# Altium integrated library Resistor - Current Sense.IntLib: 810 symbols (part 10 of 12)
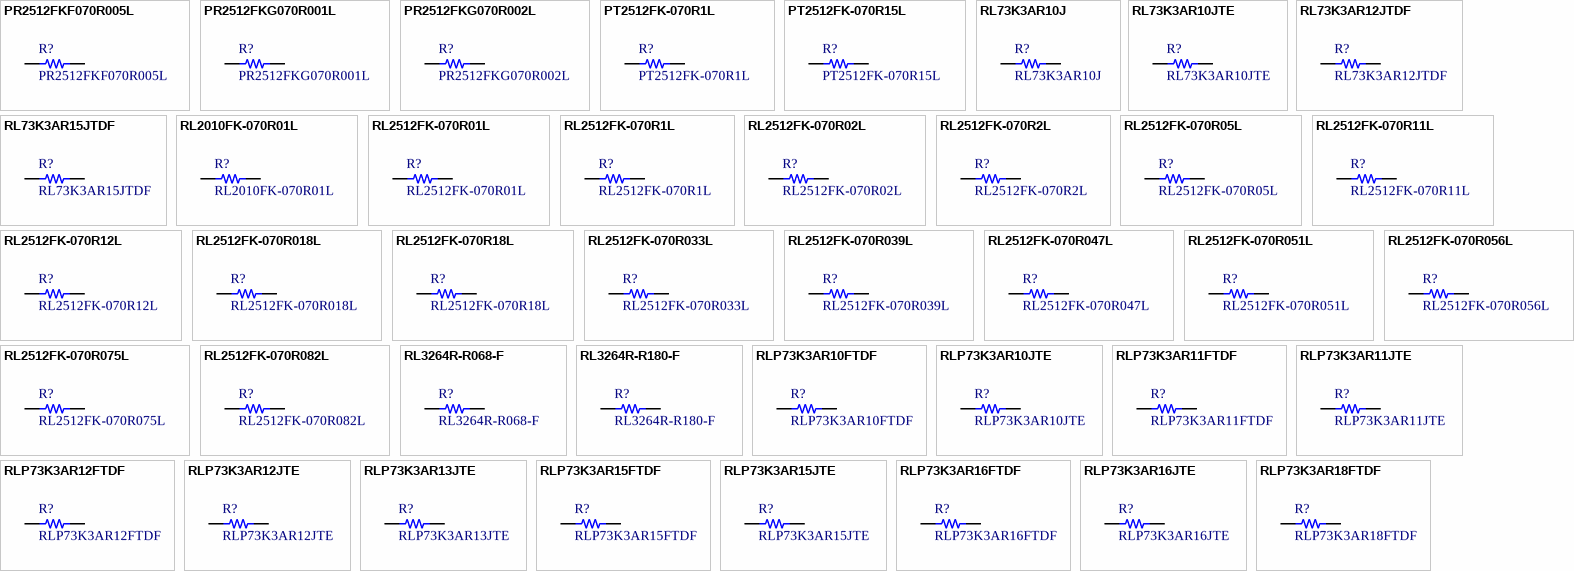
[diagram p29: symbols PR2512FKF070R005L to RLP73K3AR18FTDF]

## PR2512FKF070R005L
designator R?
RES SMD 0.005 OHM 1% 1W 2512; Manufacturer: Yageo; Value: 0.005; TemperatureRange: -55C ~ 170C; TemperatureCoefficient: 100ppm/C; Part Number: PR2512FKF070R005L; PartId: 21402; Supplier 1: Digi-Key; Supplier Part Number 1: 311-0.005AGTR-ND; ComponentLink1Description: Datasheet; ComponentLink1URL: http://www.yageo.com/NewPortal/yageodocoutput?fileName=/pdf/R-Chip/-PYu-PR_51_RoHS_Z_0.pdf; ComponentLink2Description: Digi-Key Listing; ComponentLink2URL: https://www.digikey.com/product-detail/en/yageo/PR2512FKF070R005L/311-0.005AGTR-ND/2178315; Tolerance: 1%; PowerRating: 1W; Price: 0.1882; Device Package: 2512 (6432 Metric)
footprint STACKPOLE CSR2512
pins: 1, 2

## PR2512FKG070R001L
designator R?
RES SMD 0.001 OHM 1% 1W 2512; Manufacturer: Yageo; Value: 0.001; TemperatureRange: -55C ~ 170C; TemperatureCoefficient: 200ppm/C; Part Number: PR2512FKG070R001L; PartId: 21438; Supplier 1: Digi-Key; Supplier Part Number 1: 311-0.001AGTR-ND; ComponentLink1Description: Datasheet; ComponentLink1URL: http://www.yageo.com/NewPortal/yageodocoutput?fileName=/pdf/R-Chip/-PYu-PR_51_RoHS_Z_0.pdf; ComponentLink2Description: Digi-Key Listing; ComponentLink2URL: https://www.digikey.com/product-detail/en/yageo/PR2512FKG070R001L/311-0.001AGTR-ND/2178319; Tolerance: 1%; PowerRating: 1W; Price: 0.272; Device Package: 2512 (6432 Metric)
footprint STACKPOLE CSR2512
pins: 1, 2

## PR2512FKG070R002L
designator R?
RES SMD 0.002 OHM 1% 1W 2512; Manufacturer: Yageo; Value: 0.002; TemperatureRange: -55C ~ 170C; TemperatureCoefficient: 200ppm/C; Part Number: PR2512FKG070R002L; PartId: 21439; Supplier 1: Digi-Key; Supplier Part Number 1: 311-0.002AGTR-ND; ComponentLink1Description: Datasheet; ComponentLink1URL: http://www.yageo.com/NewPortal/yageodocoutput?fileName=/pdf/R-Chip/-PYu-PR_51_RoHS_Z_0.pdf; ComponentLink2Description: Digi-Key Listing; ComponentLink2URL: https://www.digikey.com/product-detail/en/yageo/PR2512FKG070R002L/311-0.002AGTR-ND/2178318; Tolerance: 1%; PowerRating: 1W; Price: 0.272; Device Package: 2512 (6432 Metric)
footprint STACKPOLE CSR2512
pins: 1, 2

## PT2512FK-070R1L
designator R?
RES SMD 0.1 OHM 1% 1W 2512; Manufacturer: Yageo; Value: 0.1; TemperatureRange: -55C ~ 155C; TemperatureCoefficient: 100ppm/C; Part Number: PT2512FK-070R1L; PartId: 21227; Supplier 1: Digi-Key; Supplier Part Number 1: 311-0.1ARTR-ND; ComponentLink1Description: Datasheet; ComponentLink1URL: http://www.yageo.com/documents/recent/PYu-PT-Group_521_RoHS_L-1.pdf; ComponentLink2Description: Digi-Key Listing; ComponentLink2URL: https://www.digikey.com/product-detail/en/yageo/PT2512FK-070R1L/311-0.1ARTR-ND/2178346; Tolerance: 1%; PowerRating: 1W; Price: 0.1004; Device Package: 2512 (6432 Metric)
footprint STACKPOLE CSR2512
pins: 1, 2

## PT2512FK-070R15L
designator R?
RES SMD 0.15 OHM 1% 1W 2512; Manufacturer: Yageo; Value: 0.15; TemperatureRange: -55C ~ 155C; TemperatureCoefficient: 75ppm/C; Part Number: PT2512FK-070R15L; PartId: 21217; Supplier 1: Digi-Key; Supplier Part Number 1: 311-0.15ARTR-ND; ComponentLink1Description: Datasheet; ComponentLink1URL: http://www.yageo.com/documents/recent/PYu-PT-Group_521_RoHS_L-1.pdf; ComponentLink2Description: Digi-Key Listing; ComponentLink2URL: https://www.digikey.com/product-detail/en/yageo/PT2512FK-070R15L/311-0.15ARTR-ND/2178347; Tolerance: 1%; PowerRating: 1W; Price: 0.096; Device Package: 2512 (6432 Metric)
footprint STACKPOLE CSR2512
pins: 1, 2

## RL73K3AR10J
designator R?
RES SMD 0.1 OHM 5% 1W 2512; Value: 0.1; TemperatureRange: -55C ~ 155C; TemperatureCoefficient: 200ppm/C; Part Number: RL73K3AR10J; PartId: 21212; Supplier 1: Digi-Key; Supplier Part Number 1: A103652TR-ND; ComponentLink1Description: Datasheet; ComponentLink1URL: http://www.te.com/commerce/DocumentDelivery/DDEController?Action=srchrtrv&DocNm=1773269&DocType=DS&DocLang=English; ComponentLink2Description: Digi-Key Listing; ComponentLink2URL: https://www.digikey.com/product-detail/en/te-connectivity-passive-product/RL73K3AR10J/A103652TR-ND/2055681; Tolerance: 5%; PowerRating: 1W; Price: 0.0813; Device Package: 2512 (6432 Metric)
footprint STACKPOLE CSR2512
pins: 1, 2

## RL73K3AR10JTE
designator R?
RES SMD 0.1 OHM 5% 1W 2512; Value: 0.1; TemperatureRange: -55C ~ 155C; TemperatureCoefficient: 200ppm/C; Part Number: RL73K3AR10JTE; PartId: 21211; Supplier 1: Digi-Key; Supplier Part Number 1: A103653TR-ND; ComponentLink1Description: Datasheet; ComponentLink1URL: http://www.te.com/commerce/DocumentDelivery/DDEController?Action=srchrtrv&DocNm=1773269&DocType=DS&DocLang=English; ComponentLink2Description: Digi-Key Listing; ComponentLink2URL: https://www.digikey.com/product-detail/en/te-connectivity-passive-product/RL73K3AR10JTE/A103653TR-ND/2055682; Tolerance: 5%; PowerRating: 1W; Price: 0.0813; Device Package: 2512 (6432 Metric)
footprint STACKPOLE CSR2512
pins: 1, 2

## RL73K3AR12JTDF
designator R?
RES SMD 0.12 OHM 5% 1W 2512; Value: 0.12; TemperatureRange: -55C ~ 155C; TemperatureCoefficient: 200ppm/C; Part Number: RL73K3AR12JTDF; PartId: 21241; Supplier 1: Digi-Key; Supplier Part Number 1: A106123TR-ND; ComponentLink1Description: Datasheet; ComponentLink1URL: http://www.te.com/commerce/DocumentDelivery/DDEController?Action=srchrtrv&DocNm=1773269&DocType=DS&DocLang=English; ComponentLink2Description: Digi-Key Listing; ComponentLink2URL: https://www.digikey.com/product-detail/en/te-connectivity-passive-product/RL73K3AR12JTDF/A106123TR-ND/2364959; Tolerance: 5%; PowerRating: 1W; Price: 0.1111; Device Package: 2512 (6432 Metric)
footprint STACKPOLE CSR2512
pins: 1, 2

## RL73K3AR15JTDF
designator R?
RES SMD 0.15 OHM 5% 1W 2512; Value: 0.15; TemperatureRange: -55C ~ 155C; TemperatureCoefficient: 200ppm/C; Part Number: RL73K3AR15JTDF; PartId: 21240; Supplier 1: Digi-Key; Supplier Part Number 1: A106124TR-ND; ComponentLink1Description: Datasheet; ComponentLink1URL: http://www.te.com/commerce/DocumentDelivery/DDEController?Action=srchrtrv&DocNm=1773269&DocType=DS&DocLang=English; ComponentLink2Description: Digi-Key Listing; ComponentLink2URL: https://www.digikey.com/product-detail/en/te-connectivity-passive-product/RL73K3AR15JTDF/A106124TR-ND/2364960; Tolerance: 5%; PowerRating: 1W; Price: 0.1111; Device Package: 2512 (6432 Metric)
footprint STACKPOLE CSR2512
pins: 1, 2

## RL2010FK-070R01L
designator R?
RES SMD 0.01 OHM 1% 3/4W 2010; Manufacturer: Yageo; Value: 0.01; TemperatureRange: -55C ~ 155C; TemperatureCoefficient: 1500ppm/C; PowerRating: 0.75W, 3/4W; Part Number: RL2010FK-070R01L; PartId: 21532; Supplier 1: Digi-Key; Supplier Part Number 1: 311-0.01PKTR-ND; ComponentLink1Description: Datasheet; ComponentLink1URL: http://www.yageo.com/documents/recent/PYu-RL_Group_521_RoHS_L%201.pdf; ComponentLink2Description: Digi-Key Listing; ComponentLink2URL: https://www.digikey.com/product-detail/en/yageo/RL2010FK-070R01L/311-0.01PKTR-ND/3885965; Tolerance: 1%; Price: 0.1229; Device Package: 2010 (5125 Metric)
footprint STACKPOLE CSR2010
pins: 1, 2

## RL2512FK-070R01L
designator R?
RES SMD 0.01 OHM 1% 1W 2512; Manufacturer: Yageo; Value: 0.01; TemperatureRange: -55C ~ 155C; TemperatureCoefficient: 1500ppm/C; Part Number: RL2512FK-070R01L; PartId: 21263; Supplier 1: Digi-Key; Supplier Part Number 1: 311-.010TTR-ND; ComponentLink1Description: Datasheet; ComponentLink1URL: http://www.yageo.com/documents/recent/PYu-RL_Group_521_RoHS_L%201.pdf; ComponentLink2Description: Digi-Key Listing; ComponentLink2URL: https://www.digikey.com/product-detail/en/yageo/RL2512FK-070R01L/311-.010TTR-ND/1037140; Tolerance: 1%; PowerRating: 1W; Price: 0.1309; Device Package: 2512 (6432 Metric)
footprint STACKPOLE CSR2512
pins: 1, 2

## RL2512FK-070R1L
designator R?
RES SMD 0.1 OHM 1% 1W 2512; Manufacturer: Yageo; Value: 0.1; TemperatureRange: -55C ~ 155C; TemperatureCoefficient: 600ppm/C; Part Number: RL2512FK-070R1L; PartId: 21218; Supplier 1: Digi-Key; Supplier Part Number 1: 311-0.1TTR-ND; ComponentLink1Description: Datasheet; ComponentLink1URL: http://www.yageo.com/documents/recent/PYu-RL_Group_521_RoHS_L%201.pdf; ComponentLink2Description: Digi-Key Listing; ComponentLink2URL: https://www.digikey.com/product-detail/en/yageo/RL2512FK-070R1L/311-0.1TTR-ND/2827664; Tolerance: 1%; PowerRating: 1W; Price: 0.097; Device Package: 2512 (6432 Metric)
footprint STACKPOLE CSR2512
pins: 1, 2

## RL2512FK-070R02L
designator R?
RES SMD 0.02 OHM 1% 1W 2512; Manufacturer: Yageo; Value: 0.02; TemperatureRange: -55C ~ 155C; TemperatureCoefficient: 1200ppm/C; Part Number: RL2512FK-070R02L; PartId: 21267; Supplier 1: Digi-Key; Supplier Part Number 1: 311-0.02TTR-ND; ComponentLink1Description: Datasheet; ComponentLink1URL: http://www.yageo.com/documents/recent/PYu-RL_Group_521_RoHS_L%201.pdf; ComponentLink2Description: Digi-Key Listing; ComponentLink2URL: https://www.digikey.com/product-detail/en/yageo/RL2512FK-070R02L/311-0.02TTR-ND/2827671; Tolerance: 1%; PowerRating: 1W; Price: 0.1309; Device Package: 2512 (6432 Metric)
footprint STACKPOLE CSR2512
pins: 1, 2

## RL2512FK-070R2L
designator R?
RES SMD 0.2 OHM 1% 1W 2512; Manufacturer: Yageo; Value: 0.2; TemperatureRange: -55C ~ 155C; TemperatureCoefficient: 600ppm/C; Part Number: RL2512FK-070R2L; PartId: 21219; Supplier 1: Digi-Key; Supplier Part Number 1: 311-0.2TTR-ND; ComponentLink1Description: Datasheet; ComponentLink1URL: http://www.yageo.com/documents/recent/PYu-RL_Group_521_RoHS_L%201.pdf; ComponentLink2Description: Digi-Key Listing; ComponentLink2URL: https://www.digikey.com/product-detail/en/yageo/RL2512FK-070R2L/311-0.2TTR-ND/3885935; Tolerance: 1%; PowerRating: 1W; Price: 0.097; Device Package: 2512 (6432 Metric)
footprint STACKPOLE CSR2512
pins: 1, 2

## RL2512FK-070R05L
designator R?
RES SMD 0.05 OHM 1% 1W 2512; Manufacturer: Yageo; Value: 0.05; TemperatureRange: -55C ~ 155C; TemperatureCoefficient: 800ppm/C; Part Number: RL2512FK-070R05L; PartId: 21268; Supplier 1: Digi-Key; Supplier Part Number 1: 311-0.05TTR-ND; ComponentLink1Description: Datasheet; ComponentLink1URL: http://www.yageo.com/documents/recent/PYu-RL_Group_521_RoHS_L%201.pdf; ComponentLink2Description: Digi-Key Listing; ComponentLink2URL: https://www.digikey.com/product-detail/en/yageo/RL2512FK-070R05L/311-0.05TTR-ND/3885862; Tolerance: 1%; PowerRating: 1W; Price: 0.1309; Device Package: 2512 (6432 Metric)
footprint STACKPOLE CSR2512
pins: 1, 2

## RL2512FK-070R11L
designator R?
RES SMD 0.11 OHM 1% 1W 2512; Manufacturer: Yageo; Value: 0.11; TemperatureRange: -55C ~ 155C; TemperatureCoefficient: 600ppm/C; Part Number: RL2512FK-070R11L; PartId: 21220; Supplier 1: Digi-Key; Supplier Part Number 1: 311-0.11TTR-ND; ComponentLink1Description: Datasheet; ComponentLink1URL: http://www.yageo.com/documents/recent/PYu-RL_Group_521_RoHS_L%201.pdf; ComponentLink2Description: Digi-Key Listing; ComponentLink2URL: https://www.digikey.com/product-detail/en/yageo/RL2512FK-070R11L/311-0.11TTR-ND/3885863; Tolerance: 1%; PowerRating: 1W; Price: 0.097; Device Package: 2512 (6432 Metric)
footprint STACKPOLE CSR2512
pins: 1, 2

## RL2512FK-070R12L
designator R?
RES SMD 0.12 OHM 1% 1W 2512; Manufacturer: Yageo; Value: 0.12; TemperatureRange: -55C ~ 155C; TemperatureCoefficient: 600ppm/C; Part Number: RL2512FK-070R12L; PartId: 21221; Supplier 1: Digi-Key; Supplier Part Number 1: 311-0.12TTR-ND; ComponentLink1Description: Datasheet; ComponentLink1URL: http://www.yageo.com/documents/recent/PYu-RL_Group_521_RoHS_L%201.pdf; ComponentLink2Description: Digi-Key Listing; ComponentLink2URL: https://www.digikey.com/product-detail/en/yageo/RL2512FK-070R12L/311-0.12TTR-ND/3885855; Tolerance: 1%; PowerRating: 1W; Price: 0.097; Device Package: 2512 (6432 Metric)
footprint STACKPOLE CSR2512
pins: 1, 2

## RL2512FK-070R018L
designator R?
RES SMD 0.018 OHM 1% 1W 2512; Manufacturer: Yageo; Value: 0.018; TemperatureRange: -55C ~ 155C; TemperatureCoefficient: 1500ppm/C; Part Number: RL2512FK-070R018L; PartId: 21266; Supplier 1: Digi-Key; Supplier Part Number 1: 311-.018TTR-ND; ComponentLink1Description: Datasheet; ComponentLink1URL: http://www.yageo.com/documents/recent/PYu-RL_Group_521_RoHS_L%201.pdf; ComponentLink2Description: Digi-Key Listing; ComponentLink2URL: https://www.digikey.com/product-detail/en/yageo/RL2512FK-070R018L/311-.018TTR-ND/1037139; Tolerance: 1%; PowerRating: 1W; Price: 0.1309; Device Package: 2512 (6432 Metric)
footprint STACKPOLE CSR2512
pins: 1, 2

## RL2512FK-070R18L
designator R?
RES SMD 0.18 OHM 1% 1W 2512; Manufacturer: Yageo; Value: 0.18; TemperatureRange: -55C ~ 155C; TemperatureCoefficient: 600ppm/C; Part Number: RL2512FK-070R18L; PartId: 21222; Supplier 1: Digi-Key; Supplier Part Number 1: 311-0.18TTR-ND; ComponentLink1Description: Datasheet; ComponentLink1URL: http://www.yageo.com/documents/recent/PYu-RL_Group_521_RoHS_L%201.pdf; ComponentLink2Description: Digi-Key Listing; ComponentLink2URL: https://www.digikey.com/product-detail/en/yageo/RL2512FK-070R18L/311-0.18TTR-ND/3885859; Tolerance: 1%; PowerRating: 1W; Price: 0.097; Device Package: 2512 (6432 Metric)
footprint STACKPOLE CSR2512
pins: 1, 2

## RL2512FK-070R033L
designator R?
RES SMD 0.033 OHM 1% 1W 2512; Manufacturer: Yageo; Value: 0.033; TemperatureRange: -55C ~ 155C; TemperatureCoefficient: 1200ppm/C; Part Number: RL2512FK-070R033L; PartId: 21265; Supplier 1: Digi-Key; Supplier Part Number 1: 311-.033TTR-ND; ComponentLink1Description: Datasheet; ComponentLink1URL: http://www.yageo.com/documents/recent/PYu-RL_Group_521_RoHS_L%201.pdf; ComponentLink2Description: Digi-Key Listing; ComponentLink2URL: https://www.digikey.com/product-detail/en/yageo/RL2512FK-070R033L/311-.033TTR-ND/1037143; Tolerance: 1%; PowerRating: 1W; Price: 0.1309; Device Package: 2512 (6432 Metric)
footprint STACKPOLE CSR2512
pins: 1, 2

## RL2512FK-070R039L
designator R?
RES SMD 0.039 OHM 1% 1W 2512; Manufacturer: Yageo; Value: 0.039; TemperatureRange: -55C ~ 155C; TemperatureCoefficient: 1200ppm/C; Part Number: RL2512FK-070R039L; PartId: 21264; Supplier 1: Digi-Key; Supplier Part Number 1: 311-.039TTR-ND; ComponentLink1Description: Datasheet; ComponentLink1URL: http://www.yageo.com/documents/recent/PYu-RL_Group_521_RoHS_L%201.pdf; ComponentLink2Description: Digi-Key Listing; ComponentLink2URL: https://www.digikey.com/product-detail/en/yageo/RL2512FK-070R039L/311-.039TTR-ND/1037144; Tolerance: 1%; PowerRating: 1W; Price: 0.1309; Device Package: 2512 (6432 Metric)
footprint STACKPOLE CSR2512
pins: 1, 2

## RL2512FK-070R047L
designator R?
RES SMD 0.047 OHM 1% 1W 2512; Manufacturer: Yageo; Value: 0.047; TemperatureRange: -55C ~ 155C; TemperatureCoefficient: 1200ppm/C; Part Number: RL2512FK-070R047L; PartId: 21262; Supplier 1: Digi-Key; Supplier Part Number 1: 311-.047TTR-ND; ComponentLink1Description: Datasheet; ComponentLink1URL: http://www.yageo.com/documents/recent/PYu-RL_Group_521_RoHS_L%201.pdf; ComponentLink2Description: Digi-Key Listing; ComponentLink2URL: https://www.digikey.com/product-detail/en/yageo/RL2512FK-070R047L/311-.047TTR-ND/1037145; Tolerance: 1%; PowerRating: 1W; Price: 0.1309; Device Package: 2512 (6432 Metric)
footprint STACKPOLE CSR2512
pins: 1, 2

## RL2512FK-070R051L
designator R?
RES SMD 0.051 OHM 1% 1W 2512; Manufacturer: Yageo; Value: 0.051; TemperatureRange: -55C ~ 155C; TemperatureCoefficient: 800ppm/C; Part Number: RL2512FK-070R051L; PartId: 21225; Supplier 1: Digi-Key; Supplier Part Number 1: 311-0.051TTR-ND; ComponentLink1Description: Datasheet; ComponentLink1URL: http://www.yageo.com/documents/recent/PYu-RL_Group_521_RoHS_L%201.pdf; ComponentLink2Description: Digi-Key Listing; ComponentLink2URL: https://www.digikey.com/product-detail/en/yageo/RL2512FK-070R051L/311-0.051TTR-ND/3885848; Tolerance: 1%; PowerRating: 1W; Price: 0.097; Device Package: 2512 (6432 Metric)
footprint STACKPOLE CSR2512
pins: 1, 2

## RL2512FK-070R056L
designator R?
RES SMD 0.056 OHM 1% 1W 2512; Manufacturer: Yageo; Value: 0.056; TemperatureRange: -55C ~ 155C; TemperatureCoefficient: 800ppm/C; Part Number: RL2512FK-070R056L; PartId: 21226; Supplier 1: Digi-Key; Supplier Part Number 1: 311-0.056TTR-ND; ComponentLink1Description: Datasheet; ComponentLink1URL: http://www.yageo.com/documents/recent/PYu-RL_Group_521_RoHS_L%201.pdf; ComponentLink2Description: Digi-Key Listing; ComponentLink2URL: https://www.digikey.com/product-detail/en/yageo/RL2512FK-070R056L/311-0.056TTR-ND/3885851; Tolerance: 1%; PowerRating: 1W; Price: 0.097; Device Package: 2512 (6432 Metric)
footprint STACKPOLE CSR2512
pins: 1, 2

## RL2512FK-070R075L
designator R?
RES SMD 0.075 OHM 1% 1W 2512; Manufacturer: Yageo; Value: 0.075; TemperatureRange: -55C ~ 155C; TemperatureCoefficient: 800ppm/C; Part Number: RL2512FK-070R075L; PartId: 21223; Supplier 1: Digi-Key; Supplier Part Number 1: 311-0.075TTR-ND; ComponentLink1Description: Datasheet; ComponentLink1URL: http://www.yageo.com/documents/recent/PYu-RL_Group_521_RoHS_L%201.pdf; ComponentLink2Description: Digi-Key Listing; ComponentLink2URL: https://www.digikey.com/product-detail/en/yageo/RL2512FK-070R075L/311-0.075TTR-ND/3885860; Tolerance: 1%; PowerRating: 1W; Price: 0.097; Device Package: 2512 (6432 Metric)
footprint STACKPOLE CSR2512
pins: 1, 2

## RL2512FK-070R082L
designator R?
RES SMD 0.082 OHM 1% 1W 2512; Manufacturer: Yageo; Value: 0.082; TemperatureRange: -55C ~ 155C; TemperatureCoefficient: 800ppm/C; Part Number: RL2512FK-070R082L; PartId: 21224; Supplier 1: Digi-Key; Supplier Part Number 1: 311-0.082TTR-ND; ComponentLink1Description: Datasheet; ComponentLink1URL: http://www.yageo.com/documents/recent/PYu-RL_Group_521_RoHS_L%201.pdf; ComponentLink2Description: Digi-Key Listing; ComponentLink2URL: https://www.digikey.com/product-detail/en/yageo/RL2512FK-070R082L/311-0.082TTR-ND/3885861; Tolerance: 1%; PowerRating: 1W; Price: 0.097; Device Package: 2512 (6432 Metric)
footprint STACKPOLE CSR2512
pins: 1, 2

## RL3264R-R068-F
designator R?
RES SMD 0.068 OHM 1% 1W 2512; Manufacturer: Susumu; Value: 0.068; TemperatureRange: -55C ~ 125C; TemperatureCoefficient: 0/ +100ppm/C; Part Number: RL3264R-R068-F; PartId: 21436; Supplier 1: Digi-Key; Supplier Part Number 1: RL32R.068FTR-ND; ComponentLink1Description: Datasheet; ComponentLink1URL: http://www.susumu.co.jp/common/pdf/catalog_partition12_en.pdf; ComponentLink2Description: Digi-Key Listing; ComponentLink2URL: https://www.digikey.com/product-detail/en/susumu/RL3264R-R068-F/RL32R.068FTR-ND/714393; Tolerance: 1%; PowerRating: 1W; Price: 0.2704; Device Package: 2512 (6432 Metric)
footprint STACKPOLE CSR2512
pins: 1, 2

## RL3264R-R180-F
designator R?
RES SMD 0.18 OHM 1% 1W 2512; Manufacturer: Susumu; Value: 0.18; TemperatureRange: -55C ~ 125C; TemperatureCoefficient: 0/ +100ppm/C; Part Number: RL3264R-R180-F; PartId: 21437; Supplier 1: Digi-Key; Supplier Part Number 1: RL32R.18FTR-ND; ComponentLink1Description: Datasheet; ComponentLink1URL: http://www.susumu.co.jp/common/pdf/catalog_partition12_en.pdf; ComponentLink2Description: Digi-Key Listing; ComponentLink2URL: https://www.digikey.com/product-detail/en/susumu/RL3264R-R180-F/RL32R.18FTR-ND/714398; Tolerance: 1%; PowerRating: 1W; Price: 0.2704; Device Package: 2512 (6432 Metric)
footprint STACKPOLE CSR2512
pins: 1, 2

## RLP73K3AR10FTDF
designator R?
RES SMD 0.1 OHM 1% 2W 2512; Value: 0.1; TemperatureRange: -55C ~ 155C; TemperatureCoefficient: 200ppm/C; Part Number: RLP73K3AR10FTDF; PartId: 21292; Supplier 1: Digi-Key; Supplier Part Number 1: A109694TR-ND; ComponentLink1Description: Datasheet; ComponentLink1URL: http://www.te.com/commerce/DocumentDelivery/DDEController?Action=srchrtrv&DocNm=1773269&DocType=DS&DocLang=English; ComponentLink2Description: Digi-Key Listing; ComponentLink2URL: https://www.digikey.com/product-detail/en/te-connectivity-passive-product/RLP73K3AR10FTDF/A109694TR-ND/4032069; Tolerance: 1%; PowerRating: 2W; Price: 0.1401; Device Package: 2512 (6432 Metric)
footprint STACKPOLE CSR2512
pins: 1, 2

## RLP73K3AR10JTE
designator R?
RES SMD 0.1 OHM 5% 2W 2512; Value: 0.1; TemperatureRange: -55C ~ 155C; TemperatureCoefficient: 200ppm/C; Part Number: RLP73K3AR10JTE; PartId: 21213; Supplier 1: Digi-Key; Supplier Part Number 1: A109891TR-ND; ComponentLink1Description: Datasheet; ComponentLink1URL: http://www.te.com/commerce/DocumentDelivery/DDEController?Action=srchrtrv&DocNm=1773269&DocType=DS&DocLang=English; ComponentLink2Description: Digi-Key Listing; ComponentLink2URL: https://www.digikey.com/product-detail/en/te-connectivity-passive-product/RLP73K3AR10JTE/A109891TR-ND/4032266; Tolerance: 5%; PowerRating: 2W; Price: 0.0918; Device Package: 2512 (6432 Metric)
footprint STACKPOLE CSR2512
pins: 1, 2

## RLP73K3AR11FTDF
designator R?
RES SMD 0.11 OHM 1% 2W 2512; Value: 0.11; TemperatureRange: -55C ~ 155C; TemperatureCoefficient: 200ppm/C; Part Number: RLP73K3AR11FTDF; PartId: 21324; Supplier 1: Digi-Key; Supplier Part Number 1: A109695TR-ND; ComponentLink1Description: Datasheet; ComponentLink1URL: http://www.te.com/commerce/DocumentDelivery/DDEController?Action=srchrtrv&DocNm=1773269&DocType=DS&DocLang=English; ComponentLink2Description: Digi-Key Listing; ComponentLink2URL: https://www.digikey.com/product-detail/en/te-connectivity-passive-product/RLP73K3AR11FTDF/A109695TR-ND/4032070; Tolerance: 1%; PowerRating: 2W; Price: 0.162; Device Package: 2512 (6432 Metric)
footprint STACKPOLE CSR2512
pins: 1, 2

## RLP73K3AR11JTE
designator R?
RES SMD 0.11 OHM 5% 2W 2512; Value: 0.11; TemperatureRange: -55C ~ 155C; TemperatureCoefficient: 200ppm/C; Part Number: RLP73K3AR11JTE; PartId: 21234; Supplier 1: Digi-Key; Supplier Part Number 1: A109892TR-ND; ComponentLink1Description: Datasheet; ComponentLink1URL: http://www.te.com/commerce/DocumentDelivery/DDEController?Action=srchrtrv&DocNm=1773269&DocType=DS&DocLang=English; ComponentLink2Description: Digi-Key Listing; ComponentLink2URL: https://www.digikey.com/product-detail/en/te-connectivity-passive-product/RLP73K3AR11JTE/A109892TR-ND/4032267; Tolerance: 5%; PowerRating: 2W; Price: 0.1087; Device Package: 2512 (6432 Metric)
footprint STACKPOLE CSR2512
pins: 1, 2

## RLP73K3AR12FTDF
designator R?
RES SMD 0.12 OHM 1% 2W 2512; Value: 0.12; TemperatureRange: -55C ~ 155C; TemperatureCoefficient: 200ppm/C; Part Number: RLP73K3AR12FTDF; PartId: 21269; Supplier 1: Digi-Key; Supplier Part Number 1: A109696TR-ND; ComponentLink1Description: Datasheet; ComponentLink1URL: http://www.te.com/commerce/DocumentDelivery/DDEController?Action=srchrtrv&DocNm=1773269&DocType=DS&DocLang=English; ComponentLink2Description: Digi-Key Listing; ComponentLink2URL: https://www.digikey.com/product-detail/en/te-connectivity-passive-product/RLP73K3AR12FTDF/A109696TR-ND/4032071; Tolerance: 1%; PowerRating: 2W; Price: 0.1327; Device Package: 2512 (6432 Metric)
footprint STACKPOLE CSR2512
pins: 1, 2

## RLP73K3AR12JTE
designator R?
RES SMD 0.12 OHM 5% 2W 2512; Value: 0.12; TemperatureRange: -55C ~ 155C; TemperatureCoefficient: 200ppm/C; Part Number: RLP73K3AR12JTE; PartId: 21235; Supplier 1: Digi-Key; Supplier Part Number 1: A109893TR-ND; ComponentLink1Description: Datasheet; ComponentLink1URL: http://www.te.com/commerce/DocumentDelivery/DDEController?Action=srchrtrv&DocNm=1773269&DocType=DS&DocLang=English; ComponentLink2Description: Digi-Key Listing; ComponentLink2URL: https://www.digikey.com/product-detail/en/te-connectivity-passive-product/RLP73K3AR12JTE/A109893TR-ND/4032268; Tolerance: 5%; PowerRating: 2W; Price: 0.1087; Device Package: 2512 (6432 Metric)
footprint STACKPOLE CSR2512
pins: 1, 2

## RLP73K3AR13JTE
designator R?
RES SMD 0.13 OHM 5% 2W 2512; Value: 0.13; TemperatureRange: -55C ~ 155C; TemperatureCoefficient: 200ppm/C; Part Number: RLP73K3AR13JTE; PartId: 21232; Supplier 1: Digi-Key; Supplier Part Number 1: A109894TR-ND; ComponentLink1Description: Datasheet; ComponentLink1URL: http://www.te.com/commerce/DocumentDelivery/DDEController?Action=srchrtrv&DocNm=1773269&DocType=DS&DocLang=English; ComponentLink2Description: Digi-Key Listing; ComponentLink2URL: https://www.digikey.com/product-detail/en/te-connectivity-passive-product/RLP73K3AR13JTE/A109894TR-ND/4032269; Tolerance: 5%; PowerRating: 2W; Price: 0.1087; Device Package: 2512 (6432 Metric)
footprint STACKPOLE CSR2512
pins: 1, 2

## RLP73K3AR15FTDF
designator R?
RES SMD 0.15 OHM 1% 2W 2512; Value: 0.15; TemperatureRange: -55C ~ 155C; TemperatureCoefficient: 200ppm/C; Part Number: RLP73K3AR15FTDF; PartId: 21291; Supplier 1: Digi-Key; Supplier Part Number 1: A109698TR-ND; ComponentLink1Description: Datasheet; ComponentLink1URL: http://www.te.com/commerce/DocumentDelivery/DDEController?Action=srchrtrv&DocNm=1773269&DocType=DS&DocLang=English; ComponentLink2Description: Digi-Key Listing; ComponentLink2URL: https://www.digikey.com/product-detail/en/te-connectivity-passive-product/RLP73K3AR15FTDF/A109698TR-ND/4032073; Tolerance: 1%; PowerRating: 2W; Price: 0.1401; Device Package: 2512 (6432 Metric)
footprint STACKPOLE CSR2512
pins: 1, 2

## RLP73K3AR15JTE
designator R?
RES SMD 0.15 OHM 5% 2W 2512; Value: 0.15; TemperatureRange: -55C ~ 155C; TemperatureCoefficient: 200ppm/C; Part Number: RLP73K3AR15JTE; PartId: 21214; Supplier 1: Digi-Key; Supplier Part Number 1: A109895TR-ND; ComponentLink1Description: Datasheet; ComponentLink1URL: http://www.te.com/commerce/DocumentDelivery/DDEController?Action=srchrtrv&DocNm=1773269&DocType=DS&DocLang=English; ComponentLink2Description: Digi-Key Listing; ComponentLink2URL: https://www.digikey.com/product-detail/en/te-connectivity-passive-product/RLP73K3AR15JTE/A109895TR-ND/4032270; Tolerance: 5%; PowerRating: 2W; Price: 0.0918; Device Package: 2512 (6432 Metric)
footprint STACKPOLE CSR2512
pins: 1, 2

## RLP73K3AR16FTDF
designator R?
RES SMD 0.16 OHM 1% 2W 2512; Value: 0.16; TemperatureRange: -55C ~ 155C; TemperatureCoefficient: 200ppm/C; Part Number: RLP73K3AR16FTDF; PartId: 21320; Supplier 1: Digi-Key; Supplier Part Number 1: A109699TR-ND; ComponentLink1Description: Datasheet; ComponentLink1URL: http://www.te.com/commerce/DocumentDelivery/DDEController?Action=srchrtrv&DocNm=1773269&DocType=DS&DocLang=English; ComponentLink2Description: Digi-Key Listing; ComponentLink2URL: https://www.digikey.com/product-detail/en/te-connectivity-passive-product/RLP73K3AR16FTDF/A109699TR-ND/4032074; Tolerance: 1%; PowerRating: 2W; Price: 0.162; Device Package: 2512 (6432 Metric)
footprint STACKPOLE CSR2512
pins: 1, 2

## RLP73K3AR16JTE
designator R?
RES SMD 0.16 OHM 5% 2W 2512; Value: 0.16; TemperatureRange: -55C ~ 155C; TemperatureCoefficient: 200ppm/C; Part Number: RLP73K3AR16JTE; PartId: 21233; Supplier 1: Digi-Key; Supplier Part Number 1: A109896TR-ND; ComponentLink1Description: Datasheet; ComponentLink1URL: http://www.te.com/commerce/DocumentDelivery/DDEController?Action=srchrtrv&DocNm=1773269&DocType=DS&DocLang=English; ComponentLink2Description: Digi-Key Listing; ComponentLink2URL: https://www.digikey.com/product-detail/en/te-connectivity-passive-product/RLP73K3AR16JTE/A109896TR-ND/4032271; Tolerance: 5%; PowerRating: 2W; Price: 0.1087; Device Package: 2512 (6432 Metric)
footprint STACKPOLE CSR2512
pins: 1, 2

## RLP73K3AR18FTDF
designator R?
RES SMD 0.18 OHM 1% 2W 2512; Value: 0.18; TemperatureRange: -55C ~ 155C; TemperatureCoefficient: 200ppm/C; Part Number: RLP73K3AR18FTDF; PartId: 21290; Supplier 1: Digi-Key; Supplier Part Number 1: A109700TR-ND; ComponentLink1Description: Datasheet; ComponentLink1URL: http://www.te.com/commerce/DocumentDelivery/DDEController?Action=srchrtrv&DocNm=1773269&DocType=DS&DocLang=English; ComponentLink2Description: Digi-Key Listing; ComponentLink2URL: https://www.digikey.com/product-detail/en/te-connectivity-passive-product/RLP73K3AR18FTDF/A109700TR-ND/4032075; Tolerance: 1%; PowerRating: 2W; Price: 0.1401; Device Package: 2512 (6432 Metric)
footprint STACKPOLE CSR2512
pins: 1, 2

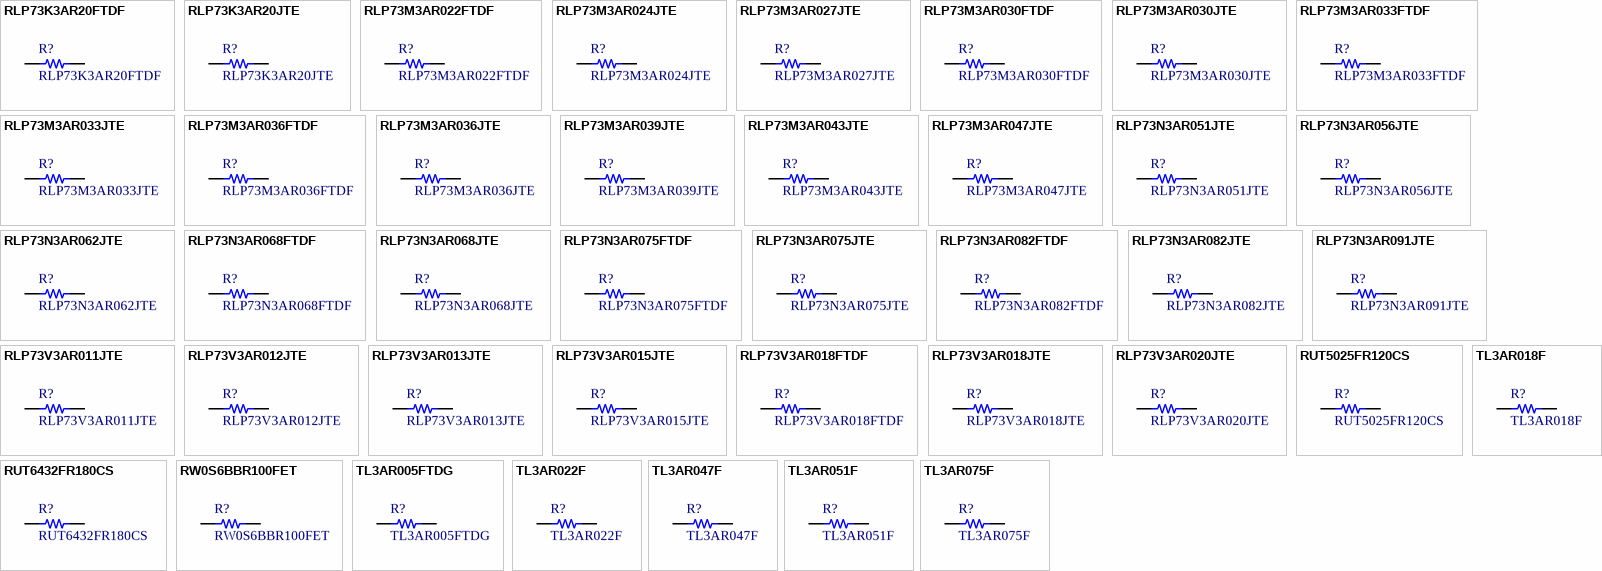
[diagram p17: symbols RLP73K3AR20FTDF to TL3AR075F]

## RLP73K3AR20FTDF
designator R?
RES SMD 0.2 OHM 1% 2W 2512; Value: 0.2; TemperatureRange: -55C ~ 155C; TemperatureCoefficient: 200ppm/C; Part Number: RLP73K3AR20FTDF; PartId: 21327; Supplier 1: Digi-Key; Supplier Part Number 1: A109701TR-ND; ComponentLink1Description: Datasheet; ComponentLink1URL: http://www.te.com/commerce/DocumentDelivery/DDEController?Action=srchrtrv&DocNm=1773269&DocType=DS&DocLang=English; ComponentLink2Description: Digi-Key Listing; ComponentLink2URL: https://www.digikey.com/product-detail/en/te-connectivity-passive-product/RLP73K3AR20FTDF/A109701TR-ND/4032076; Tolerance: 1%; PowerRating: 2W; Price: 0.162; Device Package: 2512 (6432 Metric)
footprint STACKPOLE CSR2512
pins: 1, 2

## RLP73K3AR20JTE
designator R?
RES SMD 0.2 OHM 5% 2W 2512; Value: 0.2; TemperatureRange: -55C ~ 155C; TemperatureCoefficient: 200ppm/C; Part Number: RLP73K3AR20JTE; PartId: 21236; Supplier 1: Digi-Key; Supplier Part Number 1: A109898TR-ND; ComponentLink1Description: Datasheet; ComponentLink1URL: http://www.te.com/commerce/DocumentDelivery/DDEController?Action=srchrtrv&DocNm=1773269&DocType=DS&DocLang=English; ComponentLink2Description: Digi-Key Listing; ComponentLink2URL: https://www.digikey.com/product-detail/en/te-connectivity-passive-product/RLP73K3AR20JTE/A109898TR-ND/4032273; Tolerance: 5%; PowerRating: 2W; Price: 0.1087; Device Package: 2512 (6432 Metric)
footprint STACKPOLE CSR2512
pins: 1, 2

## RLP73M3AR022FTDF
designator R?
RES SMD 0.022 OHM 1% 2W 2512; Value: 0.022; TemperatureRange: -55C ~ 155C; TemperatureCoefficient: 400ppm/C; Part Number: RLP73M3AR022FTDF; PartId: 21328; Supplier 1: Digi-Key; Supplier Part Number 1: A109678TR-ND; ComponentLink1Description: Datasheet; ComponentLink1URL: http://www.te.com/commerce/DocumentDelivery/DDEController?Action=srchrtrv&DocNm=1773269&DocType=DS&DocLang=English; ComponentLink2Description: Digi-Key Listing; ComponentLink2URL: https://www.digikey.com/product-detail/en/te-connectivity-passive-product/RLP73M3AR022FTDF/A109678TR-ND/4032053; Tolerance: 1%; PowerRating: 2W; Price: 0.162; Device Package: 2512 (6432 Metric)
footprint STACKPOLE CSR2512
pins: 1, 2

## RLP73M3AR024JTE
designator R?
RES SMD 0.024 OHM 5% 2W 2512; Value: 0.024; TemperatureRange: -55C ~ 155C; TemperatureCoefficient: 400ppm/C; Part Number: RLP73M3AR024JTE; PartId: 21299; Supplier 1: Digi-Key; Supplier Part Number 1: A109876TR-ND; ComponentLink1Description: Datasheet; ComponentLink1URL: http://www.te.com/commerce/DocumentDelivery/DDEController?Action=srchrtrv&DocNm=1773269&DocType=DS&DocLang=English; ComponentLink2Description: Digi-Key Listing; ComponentLink2URL: https://www.digikey.com/product-detail/en/te-connectivity-passive-product/RLP73M3AR024JTE/A109876TR-ND/4032251; Tolerance: 5%; PowerRating: 2W; Price: 0.1432; Device Package: 2512 (6432 Metric)
footprint STACKPOLE CSR2512
pins: 1, 2

## RLP73M3AR027JTE
designator R?
RES SMD 0.027 OHM 5% 2W 2512; Value: 0.027; TemperatureRange: -55C ~ 155C; TemperatureCoefficient: 400ppm/C; Part Number: RLP73M3AR027JTE; PartId: 21306; Supplier 1: Digi-Key; Supplier Part Number 1: A109877TR-ND; ComponentLink1Description: Datasheet; ComponentLink1URL: http://www.te.com/commerce/DocumentDelivery/DDEController?Action=srchrtrv&DocNm=1773269&DocType=DS&DocLang=English; ComponentLink2Description: Digi-Key Listing; ComponentLink2URL: https://www.digikey.com/product-detail/en/te-connectivity-passive-product/RLP73M3AR027JTE/A109877TR-ND/4032252; Tolerance: 5%; PowerRating: 2W; Price: 0.1432; Device Package: 2512 (6432 Metric)
footprint STACKPOLE CSR2512
pins: 1, 2

## RLP73M3AR030FTDF
designator R?
RES SMD 0.03 OHM 1% 2W 2512; Value: 0.03; TemperatureRange: -55C ~ 155C; TemperatureCoefficient: 400ppm/C; Part Number: RLP73M3AR030FTDF; PartId: 21326; Supplier 1: Digi-Key; Supplier Part Number 1: A109681TR-ND; ComponentLink1Description: Datasheet; ComponentLink1URL: http://www.te.com/commerce/DocumentDelivery/DDEController?Action=srchrtrv&DocNm=1773269&DocType=DS&DocLang=English; ComponentLink2Description: Digi-Key Listing; ComponentLink2URL: https://www.digikey.com/product-detail/en/te-connectivity-passive-product/RLP73M3AR030FTDF/A109681TR-ND/4032056; Tolerance: 1%; PowerRating: 2W; Price: 0.162; Device Package: 2512 (6432 Metric)
footprint STACKPOLE CSR2512
pins: 1, 2

## RLP73M3AR030JTE
designator R?
RES SMD 0.03 OHM 5% 2W 2512; Value: 0.03; TemperatureRange: -55C ~ 155C; TemperatureCoefficient: 400ppm/C; Part Number: RLP73M3AR030JTE; PartId: 21305; Supplier 1: Digi-Key; Supplier Part Number 1: A109878TR-ND; ComponentLink1Description: Datasheet; ComponentLink1URL: http://www.te.com/commerce/DocumentDelivery/DDEController?Action=srchrtrv&DocNm=1773269&DocType=DS&DocLang=English; ComponentLink2Description: Digi-Key Listing; ComponentLink2URL: https://www.digikey.com/product-detail/en/te-connectivity-passive-product/RLP73M3AR030JTE/A109878TR-ND/4032253; Tolerance: 5%; PowerRating: 2W; Price: 0.1432; Device Package: 2512 (6432 Metric)
footprint STACKPOLE CSR2512
pins: 1, 2

## RLP73M3AR033FTDF
designator R?
RES SMD 0.033 OHM 1% 2W 2512; Value: 0.033; TemperatureRange: -55C ~ 155C; TemperatureCoefficient: 400ppm/C; Part Number: RLP73M3AR033FTDF; PartId: 21322; Supplier 1: Digi-Key; Supplier Part Number 1: A109682TR-ND; ComponentLink1Description: Datasheet; ComponentLink1URL: http://www.te.com/commerce/DocumentDelivery/DDEController?Action=srchrtrv&DocNm=1773269&DocType=DS&DocLang=English; ComponentLink2Description: Digi-Key Listing; ComponentLink2URL: https://www.digikey.com/product-detail/en/te-connectivity-passive-product/RLP73M3AR033FTDF/A109682TR-ND/4032057; Tolerance: 1%; PowerRating: 2W; Price: 0.162; Device Package: 2512 (6432 Metric)
footprint STACKPOLE CSR2512
pins: 1, 2

## RLP73M3AR033JTE
designator R?
RES SMD 0.033 OHM 5% 2W 2512; Value: 0.033; TemperatureRange: -55C ~ 155C; TemperatureCoefficient: 400ppm/C; Part Number: RLP73M3AR033JTE; PartId: 21295; Supplier 1: Digi-Key; Supplier Part Number 1: A109879TR-ND; ComponentLink1Description: Datasheet; ComponentLink1URL: http://www.te.com/commerce/DocumentDelivery/DDEController?Action=srchrtrv&DocNm=1773269&DocType=DS&DocLang=English; ComponentLink2Description: Digi-Key Listing; ComponentLink2URL: https://www.digikey.com/product-detail/en/te-connectivity-passive-product/RLP73M3AR033JTE/A109879TR-ND/4032254; Tolerance: 5%; PowerRating: 2W; Price: 0.1432; Device Package: 2512 (6432 Metric)
footprint STACKPOLE CSR2512
pins: 1, 2

## RLP73M3AR036FTDF
designator R?
RES SMD 0.036 OHM 1% 2W 2512; Value: 0.036; TemperatureRange: -55C ~ 155C; TemperatureCoefficient: 400ppm/C; Part Number: RLP73M3AR036FTDF; PartId: 21321; Supplier 1: Digi-Key; Supplier Part Number 1: A109683TR-ND; ComponentLink1Description: Datasheet; ComponentLink1URL: http://www.te.com/commerce/DocumentDelivery/DDEController?Action=srchrtrv&DocNm=1773269&DocType=DS&DocLang=English; ComponentLink2Description: Digi-Key Listing; ComponentLink2URL: https://www.digikey.com/product-detail/en/te-connectivity-passive-product/RLP73M3AR036FTDF/A109683TR-ND/4032058; Tolerance: 1%; PowerRating: 2W; Price: 0.162; Device Package: 2512 (6432 Metric)
footprint STACKPOLE CSR2512
pins: 1, 2

## RLP73M3AR036JTE
designator R?
RES SMD 0.036 OHM 5% 2W 2512; Value: 0.036; TemperatureRange: -55C ~ 155C; TemperatureCoefficient: 400ppm/C; Part Number: RLP73M3AR036JTE; PartId: 21300; Supplier 1: Digi-Key; Supplier Part Number 1: A109880TR-ND; ComponentLink1Description: Datasheet; ComponentLink1URL: http://www.te.com/commerce/DocumentDelivery/DDEController?Action=srchrtrv&DocNm=1773269&DocType=DS&DocLang=English; ComponentLink2Description: Digi-Key Listing; ComponentLink2URL: https://www.digikey.com/product-detail/en/te-connectivity-passive-product/RLP73M3AR036JTE/A109880TR-ND/4032255; Tolerance: 5%; PowerRating: 2W; Price: 0.1432; Device Package: 2512 (6432 Metric)
footprint STACKPOLE CSR2512
pins: 1, 2

## RLP73M3AR039JTE
designator R?
RES SMD 0.039 OHM 5% 2W 2512; Value: 0.039; TemperatureRange: -55C ~ 155C; TemperatureCoefficient: 400ppm/C; Part Number: RLP73M3AR039JTE; PartId: 21296; Supplier 1: Digi-Key; Supplier Part Number 1: A109881TR-ND; ComponentLink1Description: Datasheet; ComponentLink1URL: http://www.te.com/commerce/DocumentDelivery/DDEController?Action=srchrtrv&DocNm=1773269&DocType=DS&DocLang=English; ComponentLink2Description: Digi-Key Listing; ComponentLink2URL: https://www.digikey.com/product-detail/en/te-connectivity-passive-product/RLP73M3AR039JTE/A109881TR-ND/4032256; Tolerance: 5%; PowerRating: 2W; Price: 0.1432; Device Package: 2512 (6432 Metric)
footprint STACKPOLE CSR2512
pins: 1, 2

## RLP73M3AR043JTE
designator R?
RES SMD 0.043 OHM 5% 2W 2512; Value: 0.043; TemperatureRange: -55C ~ 155C; TemperatureCoefficient: 400ppm/C; Part Number: RLP73M3AR043JTE; PartId: 21304; Supplier 1: Digi-Key; Supplier Part Number 1: A109882TR-ND; ComponentLink1Description: Datasheet; ComponentLink1URL: http://www.te.com/commerce/DocumentDelivery/DDEController?Action=srchrtrv&DocNm=1773269&DocType=DS&DocLang=English; ComponentLink2Description: Digi-Key Listing; ComponentLink2URL: https://www.digikey.com/product-detail/en/te-connectivity-passive-product/RLP73M3AR043JTE/A109882TR-ND/4032257; Tolerance: 5%; PowerRating: 2W; Price: 0.1432; Device Package: 2512 (6432 Metric)
footprint STACKPOLE CSR2512
pins: 1, 2

## RLP73M3AR047JTE
designator R?
RES SMD 0.047 OHM 5% 2W 2512; Value: 0.047; TemperatureRange: -55C ~ 155C; TemperatureCoefficient: 400ppm/C; Part Number: RLP73M3AR047JTE; PartId: 21297; Supplier 1: Digi-Key; Supplier Part Number 1: A109883TR-ND; ComponentLink1Description: Datasheet; ComponentLink1URL: http://www.te.com/commerce/DocumentDelivery/DDEController?Action=srchrtrv&DocNm=1773269&DocType=DS&DocLang=English; ComponentLink2Description: Digi-Key Listing; ComponentLink2URL: https://www.digikey.com/product-detail/en/te-connectivity-passive-product/RLP73M3AR047JTE/A109883TR-ND/4032258; Tolerance: 5%; PowerRating: 2W; Price: 0.1432; Device Package: 2512 (6432 Metric)
footprint STACKPOLE CSR2512
pins: 1, 2

## RLP73N3AR051JTE
designator R?
RES SMD 0.051 OHM 5% 2W 2512; Value: 0.051; TemperatureRange: -55C ~ 155C; TemperatureCoefficient: 300ppm/C; Part Number: RLP73N3AR051JTE; PartId: 21237; Supplier 1: Digi-Key; Supplier Part Number 1: A109884TR-ND; ComponentLink1Description: Datasheet; ComponentLink1URL: http://www.te.com/commerce/DocumentDelivery/DDEController?Action=srchrtrv&DocNm=1773269&DocType=DS&DocLang=English; ComponentLink2Description: Digi-Key Listing; ComponentLink2URL: https://www.digikey.com/product-detail/en/te-connectivity-passive-product/RLP73N3AR051JTE/A109884TR-ND/4032259; Tolerance: 5%; PowerRating: 2W; Price: 0.1087; Device Package: 2512 (6432 Metric)
footprint STACKPOLE CSR2512
pins: 1, 2

## RLP73N3AR056JTE
designator R?
RES SMD 0.056 OHM 5% 2W 2512; Value: 0.056; TemperatureRange: -55C ~ 155C; TemperatureCoefficient: 300ppm/C; Part Number: RLP73N3AR056JTE; PartId: 21230; Supplier 1: Digi-Key; Supplier Part Number 1: A109885TR-ND; ComponentLink1Description: Datasheet; ComponentLink1URL: http://www.te.com/commerce/DocumentDelivery/DDEController?Action=srchrtrv&DocNm=1773269&DocType=DS&DocLang=English; ComponentLink2Description: Digi-Key Listing; ComponentLink2URL: https://www.digikey.com/product-detail/en/te-connectivity-passive-product/RLP73N3AR056JTE/A109885TR-ND/4032260; Tolerance: 5%; PowerRating: 2W; Price: 0.1087; Device Package: 2512 (6432 Metric)
footprint STACKPOLE CSR2512
pins: 1, 2

## RLP73N3AR062JTE
designator R?
RES SMD 0.062 OHM 5% 2W 2512; Value: 0.062; TemperatureRange: -55C ~ 155C; TemperatureCoefficient: 300ppm/C; Part Number: RLP73N3AR062JTE; PartId: 21216; Supplier 1: Digi-Key; Supplier Part Number 1: A109886TR-ND; ComponentLink1Description: Datasheet; ComponentLink1URL: http://www.te.com/commerce/DocumentDelivery/DDEController?Action=srchrtrv&DocNm=1773269&DocType=DS&DocLang=English; ComponentLink2Description: Digi-Key Listing; ComponentLink2URL: https://www.digikey.com/product-detail/en/te-connectivity-passive-product/RLP73N3AR062JTE/A109886TR-ND/4032261; Tolerance: 5%; PowerRating: 2W; Price: 0.0918; Device Package: 2512 (6432 Metric)
footprint STACKPOLE CSR2512
pins: 1, 2

## RLP73N3AR068FTDF
designator R?
RES SMD 0.068 OHM 1% 2W 2512; Value: 0.068; TemperatureRange: -55C ~ 155C; TemperatureCoefficient: 300ppm/C; Part Number: RLP73N3AR068FTDF; PartId: 21323; Supplier 1: Digi-Key; Supplier Part Number 1: A109690TR-ND; ComponentLink1Description: Datasheet; ComponentLink1URL: http://www.te.com/commerce/DocumentDelivery/DDEController?Action=srchrtrv&DocNm=1773269&DocType=DS&DocLang=English; ComponentLink2Description: Digi-Key Listing; ComponentLink2URL: https://www.digikey.com/product-detail/en/te-connectivity-passive-product/RLP73N3AR068FTDF/A109690TR-ND/4032065; Tolerance: 1%; PowerRating: 2W; Price: 0.162; Device Package: 2512 (6432 Metric)
footprint STACKPOLE CSR2512
pins: 1, 2

## RLP73N3AR068JTE
designator R?
RES SMD 0.068 OHM 5% 2W 2512; Value: 0.068; TemperatureRange: -55C ~ 155C; TemperatureCoefficient: 300ppm/C; Part Number: RLP73N3AR068JTE; PartId: 21215; Supplier 1: Digi-Key; Supplier Part Number 1: A109887TR-ND; ComponentLink1Description: Datasheet; ComponentLink1URL: http://www.te.com/commerce/DocumentDelivery/DDEController?Action=srchrtrv&DocNm=1773269&DocType=DS&DocLang=English; ComponentLink2Description: Digi-Key Listing; ComponentLink2URL: https://www.digikey.com/product-detail/en/te-connectivity-passive-product/RLP73N3AR068JTE/A109887TR-ND/4032262; Tolerance: 5%; PowerRating: 2W; Price: 0.0918; Device Package: 2512 (6432 Metric)
footprint STACKPOLE CSR2512
pins: 1, 2

## RLP73N3AR075FTDF
designator R?
RES SMD 0.075 OHM 1% 2W 2512; Value: 0.075; TemperatureRange: -55C ~ 155C; TemperatureCoefficient: 300ppm/C; Part Number: RLP73N3AR075FTDF; PartId: 21329; Supplier 1: Digi-Key; Supplier Part Number 1: A109691TR-ND; ComponentLink1Description: Datasheet; ComponentLink1URL: http://www.te.com/commerce/DocumentDelivery/DDEController?Action=srchrtrv&DocNm=1773269&DocType=DS&DocLang=English; ComponentLink2Description: Digi-Key Listing; ComponentLink2URL: https://www.digikey.com/product-detail/en/te-connectivity-passive-product/RLP73N3AR075FTDF/A109691TR-ND/4032066; Tolerance: 1%; PowerRating: 2W; Price: 0.162; Device Package: 2512 (6432 Metric)
footprint STACKPOLE CSR2512
pins: 1, 2

## RLP73N3AR075JTE
designator R?
RES SMD 0.075 OHM 5% 2W 2512; Value: 0.075; TemperatureRange: -55C ~ 155C; TemperatureCoefficient: 300ppm/C; Part Number: RLP73N3AR075JTE; PartId: 21231; Supplier 1: Digi-Key; Supplier Part Number 1: A109888TR-ND; ComponentLink1Description: Datasheet; ComponentLink1URL: http://www.te.com/commerce/DocumentDelivery/DDEController?Action=srchrtrv&DocNm=1773269&DocType=DS&DocLang=English; ComponentLink2Description: Digi-Key Listing; ComponentLink2URL: https://www.digikey.com/product-detail/en/te-connectivity-passive-product/RLP73N3AR075JTE/A109888TR-ND/4032263; Tolerance: 5%; PowerRating: 2W; Price: 0.1087; Device Package: 2512 (6432 Metric)
footprint STACKPOLE CSR2512
pins: 1, 2

## RLP73N3AR082FTDF
designator R?
RES SMD 0.082 OHM 1% 2W 2512; Value: 0.082; TemperatureRange: -55C ~ 155C; TemperatureCoefficient: 300ppm/C; Part Number: RLP73N3AR082FTDF; PartId: 21319; Supplier 1: Digi-Key; Supplier Part Number 1: A109692TR-ND; ComponentLink1Description: Datasheet; ComponentLink1URL: http://www.te.com/commerce/DocumentDelivery/DDEController?Action=srchrtrv&DocNm=1773269&DocType=DS&DocLang=English; ComponentLink2Description: Digi-Key Listing; ComponentLink2URL: https://www.digikey.com/product-detail/en/te-connectivity-passive-product/RLP73N3AR082FTDF/A109692TR-ND/4032067; Tolerance: 1%; PowerRating: 2W; Price: 0.162; Device Package: 2512 (6432 Metric)
footprint STACKPOLE CSR2512
pins: 1, 2

## RLP73N3AR082JTE
designator R?
RES SMD 0.082 OHM 5% 2W 2512; Value: 0.082; TemperatureRange: -55C ~ 155C; TemperatureCoefficient: 300ppm/C; Part Number: RLP73N3AR082JTE; PartId: 21238; Supplier 1: Digi-Key; Supplier Part Number 1: A109889TR-ND; ComponentLink1Description: Datasheet; ComponentLink1URL: http://www.te.com/commerce/DocumentDelivery/DDEController?Action=srchrtrv&DocNm=1773269&DocType=DS&DocLang=English; ComponentLink2Description: Digi-Key Listing; ComponentLink2URL: https://www.digikey.com/product-detail/en/te-connectivity-passive-product/RLP73N3AR082JTE/A109889TR-ND/4032264; Tolerance: 5%; PowerRating: 2W; Price: 0.1087; Device Package: 2512 (6432 Metric)
footprint STACKPOLE CSR2512
pins: 1, 2

## RLP73N3AR091JTE
designator R?
RES SMD 0.091 OHM 5% 2W 2512; Value: 0.091; TemperatureRange: -55C ~ 155C; TemperatureCoefficient: 300ppm/C; Part Number: RLP73N3AR091JTE; PartId: 21239; Supplier 1: Digi-Key; Supplier Part Number 1: A109890TR-ND; ComponentLink1Description: Datasheet; ComponentLink1URL: http://www.te.com/commerce/DocumentDelivery/DDEController?Action=srchrtrv&DocNm=1773269&DocType=DS&DocLang=English; ComponentLink2Description: Digi-Key Listing; ComponentLink2URL: https://www.digikey.com/product-detail/en/te-connectivity-passive-product/RLP73N3AR091JTE/A109890TR-ND/4032265; Tolerance: 5%; PowerRating: 2W; Price: 0.1087; Device Package: 2512 (6432 Metric)
footprint STACKPOLE CSR2512
pins: 1, 2

## RLP73V3AR011JTE
designator R?
RES SMD 0.011 OHM 5% 2W 2512; Value: 0.011; TemperatureRange: -55C ~ 155C; TemperatureCoefficient: 600ppm/C; Part Number: RLP73V3AR011JTE; PartId: 21298; Supplier 1: Digi-Key; Supplier Part Number 1: A109868TR-ND; ComponentLink1Description: Datasheet; ComponentLink1URL: http://www.te.com/commerce/DocumentDelivery/DDEController?Action=srchrtrv&DocNm=1773269&DocType=DS&DocLang=English; ComponentLink2Description: Digi-Key Listing; ComponentLink2URL: https://www.digikey.com/product-detail/en/te-connectivity-passive-product/RLP73V3AR011JTE/A109868TR-ND/4032243; Tolerance: 5%; PowerRating: 2W; Price: 0.1432; Device Package: 2512 (6432 Metric)
footprint STACKPOLE CSR2512
pins: 1, 2

## RLP73V3AR012JTE
designator R?
RES SMD 0.012 OHM 5% 2W 2512; Value: 0.012; TemperatureRange: -55C ~ 155C; TemperatureCoefficient: 600ppm/C; Part Number: RLP73V3AR012JTE; PartId: 21294; Supplier 1: Digi-Key; Supplier Part Number 1: A109869TR-ND; ComponentLink1Description: Datasheet; ComponentLink1URL: http://www.te.com/commerce/DocumentDelivery/DDEController?Action=srchrtrv&DocNm=1773269&DocType=DS&DocLang=English; ComponentLink2Description: Digi-Key Listing; ComponentLink2URL: https://www.digikey.com/product-detail/en/te-connectivity-passive-product/RLP73V3AR012JTE/A109869TR-ND/4032244; Tolerance: 5%; PowerRating: 2W; Price: 0.1432; Device Package: 2512 (6432 Metric)
footprint STACKPOLE CSR2512
pins: 1, 2

## RLP73V3AR013JTE
designator R?
RES SMD 0.013 OHM 5% 2W 2512; Value: 0.013; TemperatureRange: -55C ~ 155C; TemperatureCoefficient: 600ppm/C; Part Number: RLP73V3AR013JTE; PartId: 21301; Supplier 1: Digi-Key; Supplier Part Number 1: A109870TR-ND; ComponentLink1Description: Datasheet; ComponentLink1URL: http://www.te.com/commerce/DocumentDelivery/DDEController?Action=srchrtrv&DocNm=1773269&DocType=DS&DocLang=English; ComponentLink2Description: Digi-Key Listing; ComponentLink2URL: https://www.digikey.com/product-detail/en/te-connectivity-passive-product/RLP73V3AR013JTE/A109870TR-ND/4032245; Tolerance: 5%; PowerRating: 2W; Price: 0.1432; Device Package: 2512 (6432 Metric)
footprint STACKPOLE CSR2512
pins: 1, 2

## RLP73V3AR015JTE
designator R?
RES SMD 0.015 OHM 5% 2W 2512; Value: 0.015; TemperatureRange: -55C ~ 155C; TemperatureCoefficient: 600ppm/C; Part Number: RLP73V3AR015JTE; PartId: 21302; Supplier 1: Digi-Key; Supplier Part Number 1: A109871TR-ND; ComponentLink1Description: Datasheet; ComponentLink1URL: http://www.te.com/commerce/DocumentDelivery/DDEController?Action=srchrtrv&DocNm=1773269&DocType=DS&DocLang=English; ComponentLink2Description: Digi-Key Listing; ComponentLink2URL: https://www.digikey.com/product-detail/en/te-connectivity-passive-product/RLP73V3AR015JTE/A109871TR-ND/4032246; Tolerance: 5%; PowerRating: 2W; Price: 0.1432; Device Package: 2512 (6432 Metric)
footprint STACKPOLE CSR2512
pins: 1, 2

## RLP73V3AR018FTDF
designator R?
RES SMD 0.018 OHM 1% 2W 2512; Value: 0.018; TemperatureRange: -55C ~ 155C; TemperatureCoefficient: 600ppm/C; Part Number: RLP73V3AR018FTDF; PartId: 21325; Supplier 1: Digi-Key; Supplier Part Number 1: A109676TR-ND; ComponentLink1Description: Datasheet; ComponentLink1URL: http://www.te.com/commerce/DocumentDelivery/DDEController?Action=srchrtrv&DocNm=1773269&DocType=DS&DocLang=English; ComponentLink2Description: Digi-Key Listing; ComponentLink2URL: https://www.digikey.com/product-detail/en/te-connectivity-passive-product/RLP73V3AR018FTDF/A109676TR-ND/4032051; Tolerance: 1%; PowerRating: 2W; Price: 0.162; Device Package: 2512 (6432 Metric)
footprint STACKPOLE CSR2512
pins: 1, 2

## RLP73V3AR018JTE
designator R?
RES SMD 0.018 OHM 5% 2W 2512; Value: 0.018; TemperatureRange: -55C ~ 155C; TemperatureCoefficient: 600ppm/C; Part Number: RLP73V3AR018JTE; PartId: 21303; Supplier 1: Digi-Key; Supplier Part Number 1: A109873TR-ND; ComponentLink1Description: Datasheet; ComponentLink1URL: http://www.te.com/commerce/DocumentDelivery/DDEController?Action=srchrtrv&DocNm=1773269&DocType=DS&DocLang=English; ComponentLink2Description: Digi-Key Listing; ComponentLink2URL: https://www.digikey.com/product-detail/en/te-connectivity-passive-product/RLP73V3AR018JTE/A109873TR-ND/4032248; Tolerance: 5%; PowerRating: 2W; Price: 0.1432; Device Package: 2512 (6432 Metric)
footprint STACKPOLE CSR2512
pins: 1, 2

## RLP73V3AR020JTE
designator R?
RES SMD 0.02 OHM 5% 2W 2512; Value: 0.02; TemperatureRange: -55C ~ 155C; TemperatureCoefficient: 600ppm/C; Part Number: RLP73V3AR020JTE; PartId: 21293; Supplier 1: Digi-Key; Supplier Part Number 1: A109874TR-ND; ComponentLink1Description: Datasheet; ComponentLink1URL: http://www.te.com/commerce/DocumentDelivery/DDEController?Action=srchrtrv&DocNm=1773269&DocType=DS&DocLang=English; ComponentLink2Description: Digi-Key Listing; ComponentLink2URL: https://www.digikey.com/product-detail/en/te-connectivity-passive-product/RLP73V3AR020JTE/A109874TR-ND/4032249; Tolerance: 5%; PowerRating: 2W; Price: 0.1432; Device Package: 2512 (6432 Metric)
footprint STACKPOLE CSR2512
pins: 1, 2